# Altium footprint library COOLCONTROL.PcbLib: 95 footprints (part 3 of 6)
Each footprint in its own frame and in the unit in brackets; x right, y up, seen from the top. Pads: shape width x height; smd on the part's side, far side on the other; paste and mask are expansions set on the pad; w line width, h text height; cw(c..) or ccw(c..) is an arc to the next point about the centre after c.
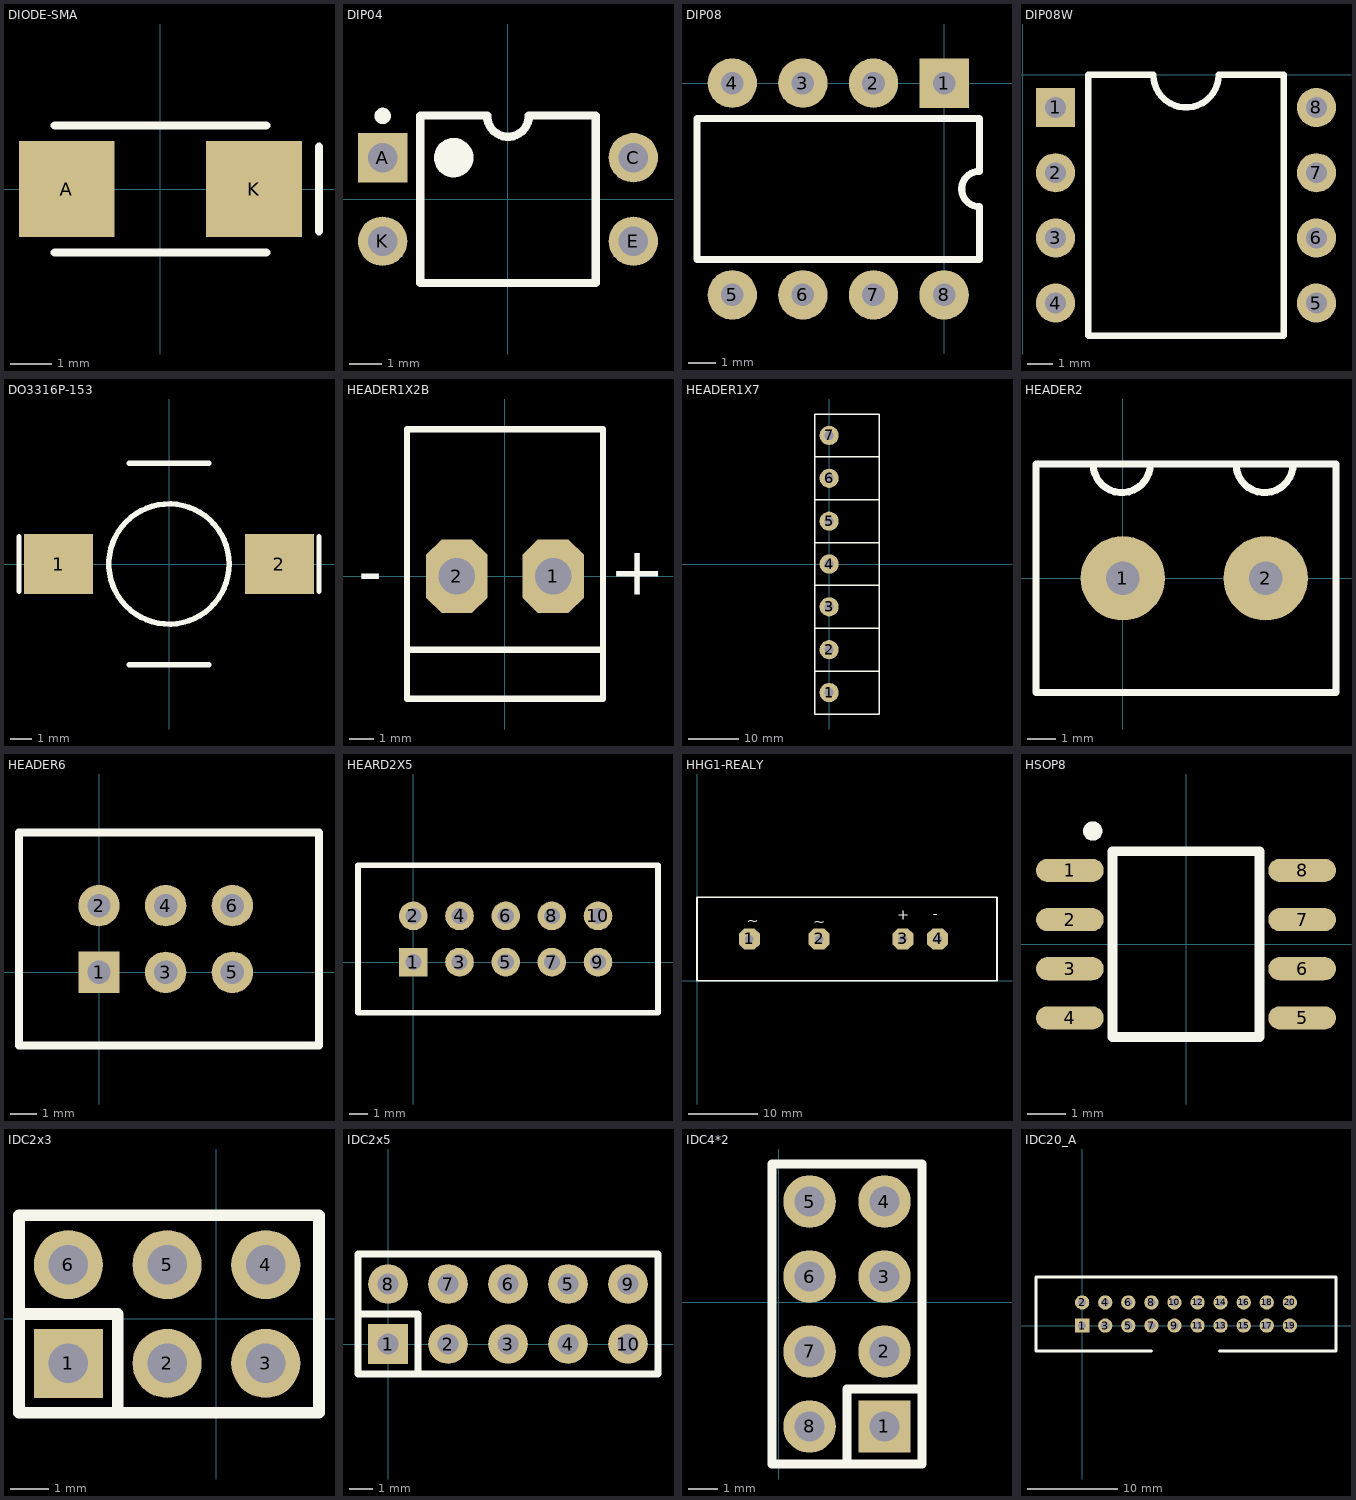
[diagram p2: the footprints below, top view; thin cyan lines are the x and y axes]

## DIODE-SMA [mm]
pads (2):
  rect 2.3x2.3 smd: A(-2.25,0) K(2.25,0)
Top Overlay:
  lines w0.2: -2.54,-1.524 2.54,-1.524 ; -2.54,1.524 2.54,1.524 ; 3.81,-1.016 3.81,1.016

## DIP04 [mm]
pads (4):
  rect 1.5x1.5 hole 0.9: A(-3.798,1.27)
  round 1.5 hole 0.9: C(3.822,1.27) E(3.822,-1.27) K(-3.798,-1.27)
Top Overlay:
  circle w0.25: c-3.798,2.54 r0.125
  circle w0.6: c-1.639,1.27 r0.3
  lines w0.254: -0.623,2.54 ccw(c0.012,2.54) 0.647,2.54 ; -0.623,2.55 -2.655,2.55 -2.655,-2.54 2.679,-2.54 2.679,2.55 0.647,2.55

## DIP08 [mil]
pads (8):
  rect 70x70 hole 32: 1(0,0.01)
  round 70 hole 32: 2(-100,0.01) 3(-200,0.01) 4(-300,0.01) 5(-300,-299.99) 6(-200,-299.99) 7(-100,-299.99) 8(0,-299.99)
Top Overlay:
  lines w10: -350,-249.99 -350,-49.99 50,-49.99 50,-124.99 ccw(c50,-149.99) 50,-174.99 50,-249.99 -350,-249.99

## DIP08W [mil]
pads (8):
  rect 60x60 hole 32: 1(49.94,-49.96)
  round 60 hole 32: 2(49.94,-149.96) 3(49.94,-249.96) 4(49.94,-349.96) 5(449.94,-349.96) 6(449.94,-249.96) 7(449.94,-149.96) 8(449.94,-49.96)
Top Overlay:
  lines w10: 99.94,-399.96 99.94,0.04 199.94,0.04 ccw(c249.94,0.04) 299.94,0.03 399.94,0.04 399.94,-399.96 99.94,-399.96

## DO3316P-153 [mm]
pads (2):
  rect 3.2x2.79 smd: 1(-5.145,0) 2(5.145,0)
Top Overlay:
  circle w0.254: c0,0 r2.8
  lines w0.254: -6.985,-1.27 -6.985,1.27 ; -1.845,-4.7 1.845,-4.7 ; -1.845,4.7 1.845,4.7 ; 6.985,-1.27 6.985,1.27

## HEADER1X2B [mil]
pads (2):
  oct 100x120 hole 60: 1(78.74,0) 2(-78.74,0)
Top Overlay:
  lines w10: -160,-120 -160,240 160,240 160,-120 ; -160,-120 160,-120 ; -160,-120 -160,-200 160,-200 160,-120
  text "+" at 170,-30 h80
  text "-" at -240,-30 h80

## HEADER1X7 [mm]
pads (7):
  round 3.8 hole 1.8: 1(0,-25.5) 2(0,-17) 3(0,-8.5) 4(0,0) 5(0,8.5) 6(0,17) 7(0,25.5)
Top Overlay:
  lines w0.254: -2.8,-21.25 9.9,-21.25 ; -2.8,-12.75 9.9,-12.75 ; -2.8,-4.25 9.9,-4.25 ; -2.8,4.25 9.9,4.25 ; -2.8,12.75 9.9,12.75 ; -2.8,21.25 9.9,21.25 ; -2.8,-29.75 -2.8,29.75 9.9,29.75 9.9,-29.75 -2.8,-29.75

## HEADER2 [mm]
pads (2):
  round 3 hole 1.2: 1(0,0) 2(5.08,0)
Top Overlay:
  lines w0.254: -1.056,4.064 ccw(c-0.04,4.064) 0.976,4.064 ; 4.024,4.064 ccw(c5.04,4.064) 6.056,4.064 ; -3.088,-4.064 -3.088,4.064 2.5,4.064 7.58,4.064 7.58,-4.064 -3.088,-4.064

## HEADER6 [mil]
pads (6):
  rect 62x62 hole 35: 1(0,0)
  round 62 hole 35: 2(0,100) 3(100,0) 4(100,100) 5(200,0) 6(200,100)
Top Overlay:
  lines w12: -120,-110 -120,210 330,210 330,-110 -120,-110

## HEARD2X5 [mil]
pads (10):
  rect 62x62 hole 35: 1(0,0.01)
  round 62 hole 35: 2(0,100.01) 3(100,0.01) 4(100,100.01) 5(200,0.01) 6(200,100.01) 7(300,0.01) 8(300,100.01) 9(400,0.01) 10(400,100.01)
Top Overlay:
  lines w12: -120,-109.99 530,-109.99 530,210.01 -120,210.01 -120,-109.99

## HHG1-REALY [mm]
pads (4):
  oct 3x3 hole 1.2: 1(7.5,6) 2(17.5,6) 3(29.5,6) 4(34.5,6)
Top Overlay:
  lines w0.254: 0,0 0,12 43,12 43,0 0,0
  text "-" at 33.782,8.89 h1.52
  text "+" at 28.702,8.763 h1.52
  text "~" at 16.637,7.747 h1.52
  text "~" at 7.112,7.874 h1.52

## HSOP8 [mm]
pads (8):
  oval 1.75x0.6 smd: 1(-3,1.905) 2(-3,0.635) 3(-3,-0.635) 4(-3,-1.905) 5(3,-1.905) 6(3,-0.635) 7(3,0.635) 8(3,1.905)
Top Overlay:
  circle w0.25: c-2.411,2.921 r0.125
  lines w0.254: -1.9,-2.4 1.9,-2.4 1.9,2.4 -1.9,2.4 -1.9,-2.4

## IDC2x3 [mil]
pads (6):
  rect 70x70 hole 40: 1(-150,-45)
  round 70 hole 40: 2(-50,-45) 3(50,-45) 4(50,55) 5(-50,55) 6(-150,55)
Top Overlay:
  lines w12: -200,5 -100,5 -100,-95 ; -200,-95 104,-95 104,105 -200,105 -200,-95
3D body "1001-3.STEP": height 336.22, standoff -118.11, extent -198,-90 102,10
3D body "1001-3.STEP": height 336.22, standoff -118.11, extent -198,3.01 102,103.01

## IDC2x5 [mil]
pads (10):
  rect 66x66 hole 35.43: 1(0,0)
  round 66 hole 35.43: 2(100,0) 3(200,0) 4(300,0) 5(300,100) 6(200,100) 7(100,100) 8(0,100) 9(400,100) 10(400,0)
Top Overlay:
  lines w12: -50,50 50,50 50,-50 ; -50,-50 -50,150 450,150 450,-50 -50,-50
3D body "1001-5.STEP": height 336.22, standoff -118.11, extent -49,-55 451,45
3D body "1001-5.STEP": height 336.22, standoff -118.11, extent -49,45 451,145

## IDC4*2 [mil]
pads (8):
  rect 70x70 hole 40: 1(141,-166)
  round 70 hole 40: 2(141,-66) 3(141,34) 4(141,134) 5(41,134) 6(41,34) 7(41,-66) 8(41,-166)
Top Overlay:
  lines w12: 91,-216 91,-116 191,-116 ; -9,-216 -9,184 191,184 191,-216 -9,-216
3D body "1001-4.STEP": height 336.22, standoff -118.11, extent -8,-214 92,186
3D body "1001-4.STEP": height 336.22, standoff -118.11, extent 91,-214 191,186

## IDC20_A [mil]
pads (20):
  rect 62x62 hole 35: 1(0,0)
  round 62 hole 35: 2(0,100) 3(100,0) 4(100,100) 5(200,0) 6(200,100) 7(300,0) 8(300,100) 9(400,0) 10(400,100) 11(500,0) 12(500,100) 13(600,0) 14(600,100) 15(700,0) 16(700,100) 17(800,0) 18(800,100) 19(900,0) 20(900,100)
Top Overlay:
  lines w12: 300,-110 -200,-110 -200,210 1100,210 1100,-110 ; 595,-110 1095,-110